# EAGLE library part MAX1771 (library robotter)
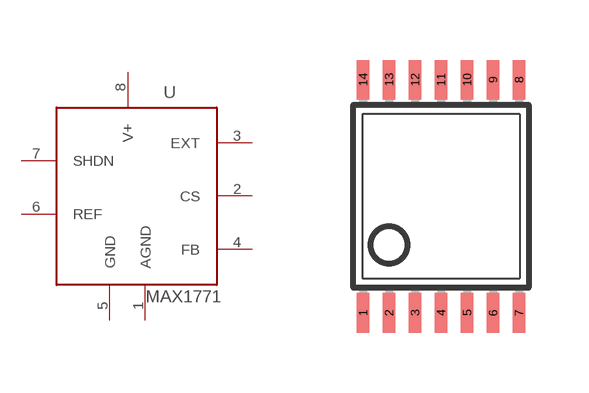
[diagram p1: symbol with the pads of TSSOP14; footprint TSSOP14]

Designator prefix -

## MAX1771  [TSSOP14]
1  AGND
2  CS
3  EXT
4  FB
5  GND  pwr
6  REF
7  SHDN
8  V+  pwr

## Footprint TSSOP14 (pad centres in mm)
Thin Shrink Small Outline Plastic 16 MAX3223-MAX3243.pdf
smd 0.305 x 0.991: 1 -2.275,-2.918; 2 -1.625,-2.918; 3 -0.975,-2.918; 4 -0.325,-2.918; 5 0.325,-2.918; 6 0.975,-2.918; 7 1.625,-2.918; 8 1.625,2.918; 9 0.975,2.918; 10 0.325,2.918; 11 -0.325,2.918; 12 -0.975,2.918; 13 -1.625,2.918; 14 -2.275,2.918